# Altium footprint library Pakage_lib.pcblib: 90 footprints (part 1 of 6)
Each footprint in its own frame and in the unit in brackets; x right, y up, seen from the top. Pads: shape width x height; smd on the part's side, far side on the other; paste and mask are expansions set on the pad; w line width, h text height; cw(c..) or ccw(c..) is an arc to the next point about the centre after c.
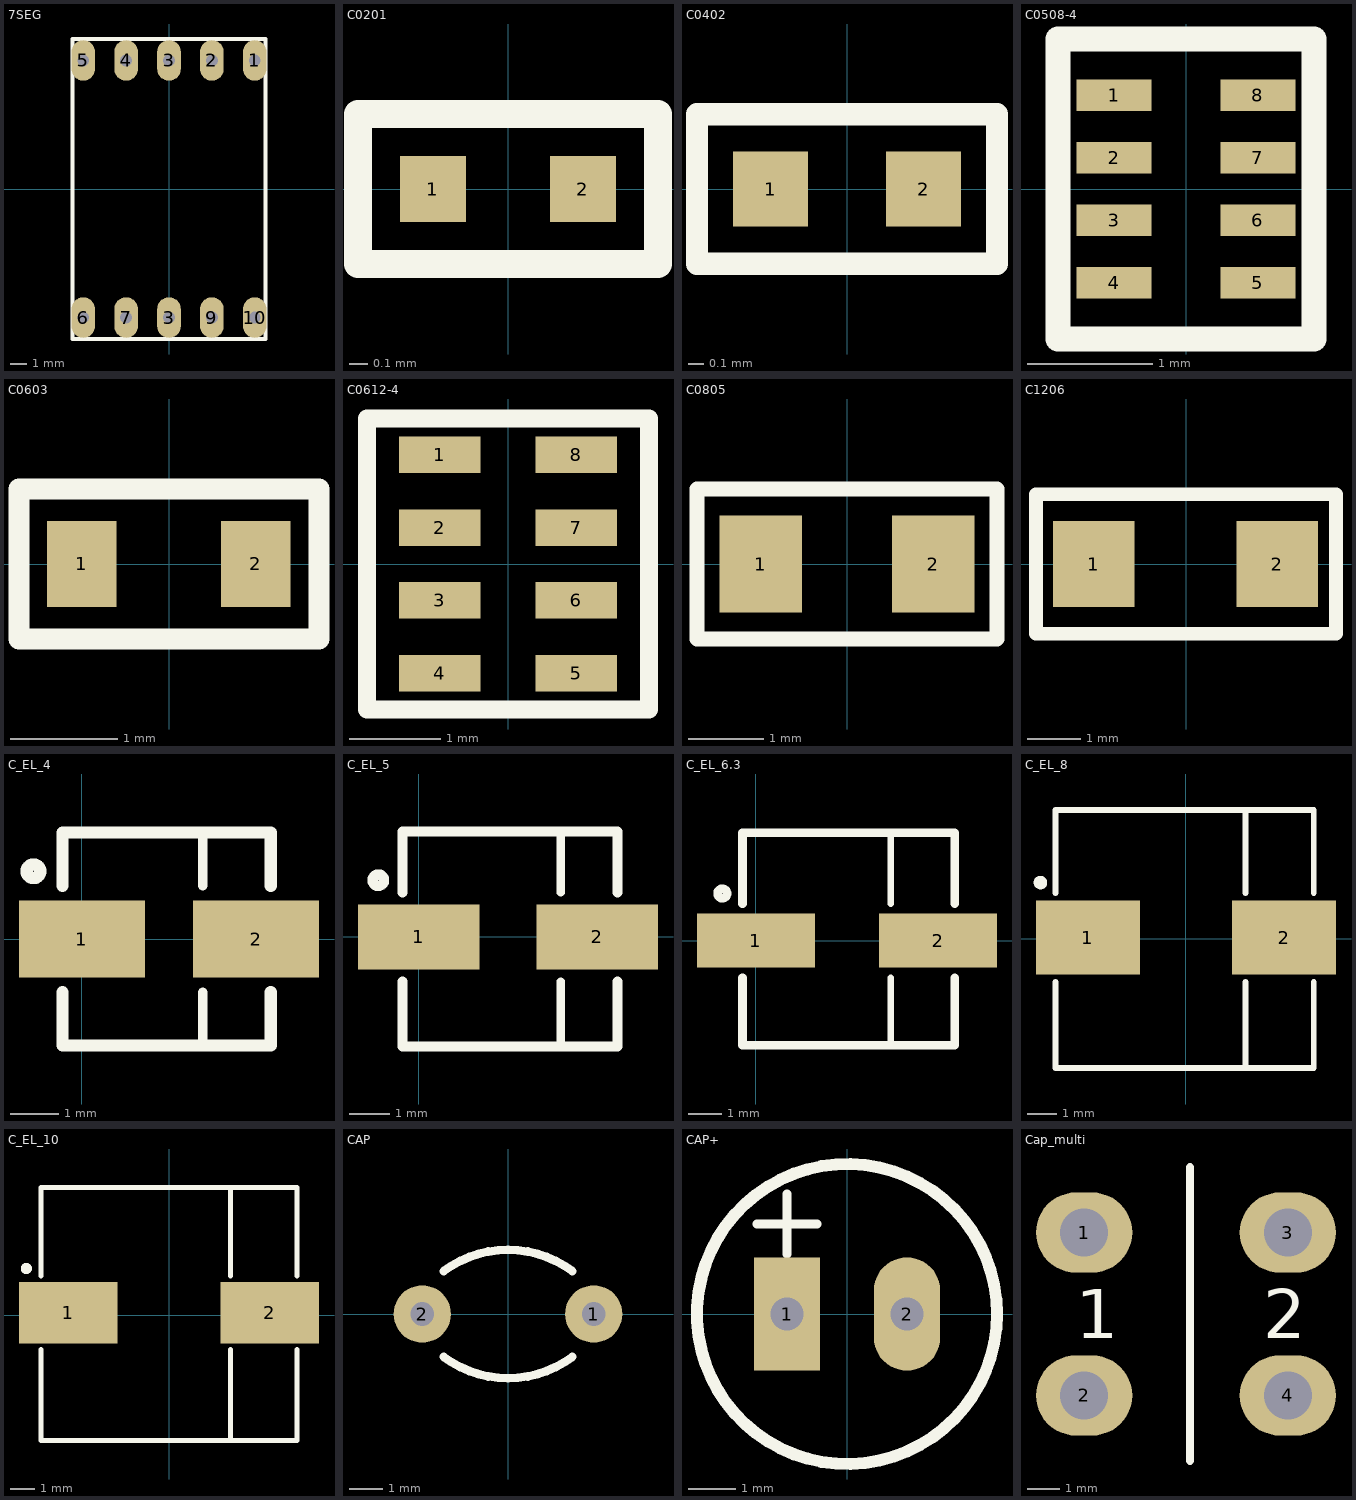
[diagram p0: the footprints below, top view; thin cyan lines are the x and y axes]

## 7SEG [mm]
pads (10):
  oval 1.4x2.4 hole 0.7: 1(5.08,7.62) 2(2.54,7.62) 3(0,-7.62) 3(0,7.62) 4(-2.54,7.62) 5(-5.08,7.62) 6(-5.08,-7.62) 7(-2.54,-7.62) 9(2.54,-7.62) 10(5.08,-7.62)
Top Overlay:
  lines w0.254: -5.715,-8.89 -5.715,8.89 5.715,8.89 5.715,-8.89 -5.715,-8.89

## C0201 [mm] "SMD Body 0.6 x 0.3 mm (LxW typ)"
height 0.35
pads (2):
  rect 0.35x0.35 smd: 1(-0.4,0) 2(0.4,0)
Top Overlay:
  lines w0.15: -0.8,-0.4 -0.8,0.4 0.8,0.4 0.8,-0.4 -0.8,-0.4
3D body "User Library-res0201-1.STEP": height 0.23, standoff 0, extent -0.3,-0.15 0.3,0.15

## C0402 [mm]
pads (2):
  rect 0.5x0.5 smd: 1(-0.51,0) 2(0.51,0)
Top Overlay:
  lines w0.15: -1,-0.5 -1,0.5 1,0.5 1,-0.5 -1,-0.5
3D body "User Library-0402C.step": height 0.36, standoff 0, extent -0.5,-0.275 0.5,0.255

## C0508-4 [mm] "Capacitor array (4 caps)"
pads (8):
  rect 0.6x0.25 smd: 1(-0.575,0.75) 2(-0.575,0.25) 3(-0.575,-0.25) 4(-0.575,-0.75) 5(0.575,-0.75) 6(0.575,-0.25) 7(0.575,0.25) 8(0.575,0.75)
Top Overlay:
  lines w0.2: -1.025,-1.2 -1.025,1.2 1.025,1.2 1.025,-1.2 -1.025,-1.2
3D body "User Library-lla215.step": height 0.52, standoff 0, extent -0.64,-1 0.64,1

## C0603 [mm]
pads (2):
  rect 0.65x0.8 smd: 1(-0.815,0) 2(0.81,0)
Top Overlay:
  lines w0.2: -1.4,-0.7 1.4,-0.7 1.4,0.7 -1.4,0.7 -1.4,-0.7
3D body "User Library-Chip Cap_MLCC_0603 (1608).step": height 0.5, standoff 0, extent -0.8,-0.4 0.8,0.4

## C0612-4 [mm] "Capacitor array (4 caps)"
pads (8):
  rect 0.9x0.4 smd: 1(-0.75,1.2) 2(-0.75,0.4) 3(-0.75,-0.4) 4(-0.75,-1.2) 5(0.75,-1.2) 6(0.75,-0.4) 7(0.75,0.4) 8(0.75,1.2)
Top Overlay:
  lines w0.2: -1.55,-1.6 -1.55,1.6 1.55,1.6 1.55,-1.6 -1.55,-1.6
3D body "User Library-Array-1206-4Way-Var1.STEP": height 0.5, standoff 0, extent -0.8,-1.6 0.8,1.6

## C0805 [mm]
pads (2):
  rect 1.1x1.3 smd: 1(-1.15,0) 2(1.15,0)
Top Overlay:
  lines w0.2: -2,-1 -2,1 2,1 2,-1 -2,-1
3D body: height 0.7, standoff 0, extent 0.5,-0.625 1,0.625
3D body: height 0.7, standoff 0, extent -1,-0.625 -0.5,0.625
3D body: height 0.7, standoff 0, extent -0.5,-0.625 0.5,0.625

## C1206 [mm]
pads (2):
  rect 1.52x1.6 smd: 1(-1.725,0) 2(1.7,0)
Top Overlay:
  lines w0.254: -2.8,-1.3 2.8,-1.3 2.8,1.3 -2.8,1.3 -2.8,-1.3
3D body "User Library-Chip Cap_MLCC_1206 (3216)_C.STEP": height 0.95, standoff 0, extent -1.6,-0.8 1.6,0.8

## C_EL_4 [mm]
pads (2):
  rect 2.6x1.6 smd: 1(0,0) 2(3.6,0)
Top Overlay:
  circle w0.254: c-1,1.4 r0.141
  lines w0.2: 2.5,-2.2 2.5,-1.1 ; 2.5,1.1 2.5,2.2
  lines w0.254: 3.9,-1.1 3.9,-2.2 -0.4,-2.2 -0.4,-1.1 ; 3.9,1.1 3.9,2.2 -0.4,2.2 -0.4,1.1 ; -0.4,-1.1 -0.4,-1.1 ; -0.4,1.1 -0.4,1.1
3D body "User Library-CAPSMD4x3_9.STEP": height 3.91, standoff 0, extent -0.55,-2.175 4.05,2.125

## C_EL_5 [mm]
pads (2):
  rect 3x1.6 smd: 1(0,0) 2(4.4,0)
Top Overlay:
  circle w0.254: c-1,1.4 r0.141
  lines w0.2: 3.5,-2.7 3.5,-1.1 ; 3.5,1.1 3.5,2.6
  lines w0.254: 4.9,-1.1 4.9,-2.7 -0.4,-2.7 -0.4,-1.1 ; 4.9,1.1 4.9,2.6 -0.4,2.6 -0.4,1.1 ; -0.4,-1.1 -0.4,-1.1 ; -0.4,1.1 -0.4,1.1
3D body "User Library-CAP SMD SVP 5_0x5_9.STEP": height 5.9, standoff 0, extent -0.8,-2.65 5.2,2.65

## C_EL_6.3 [mm]
pads (2):
  rect 3.5x1.6 smd: 1(0,0) 2(5.4,0)
Top Overlay:
  circle w0.254: c-1,1.4 r0.141
  lines w0.2: 4,-3.1 4,-1.1 ; 4,1.1 4,3.2
  lines w0.254: -0.4,-1.1 -0.4,-3.1 5.9,-3.1 5.9,-1.1 ; -0.4,1.1 -0.4,3.2 5.9,3.2 5.9,1.1
3D body "User Library-CEL63D66S8H.STEP": height 7.9, standoff 0.2, extent -0.775,-3.3 6.225,3.3

## C_EL_8 [mm]
pads (2):
  rect 3.5x2.5 smd: 1(-3.3,0.05) 2(3.3,0.05)
Top Overlay:
  circle w0.254: c-4.9,1.9 r0.1
  lines w0.2: -4.4,-1.45 -4.4,-4.35 4.3,-4.35 4.3,-1.45 ; -4.4,1.55 -4.4,4.35 4.3,4.35 4.3,1.55 ; 2,-4.35 2,-1.45 ; 2,1.55 2,4.35
3D body "User Library-CAP SMD SVP 8_0x6_9.STEP": height 6.9, standoff 0, extent -4.5,-4.15 4.5,4.15

## C_EL_10 [mm]
pads (2):
  rect 4x2.5 smd: 1(-4.1,0.1) 2(4.1,0.1)
Top Overlay:
  circle w0.254: c-5.8,1.9 r0.1
  lines w0.2: -5.2,-1.4 -5.2,-5.1 5.2,-5.1 5.2,-1.4 ; -5.2,1.6 -5.2,5.2 5.2,5.2 5.2,1.6 ; 2.5,-5.1 2.5,-1.4 ; 2.5,1.6 2.5,5.2
3D body "User Library-CAP SMD SVP 10_0x12_6.STEP": height 12.6, standoff 0, extent -5.5,-5.15 5.5,5.15

## CAP [mm]
pads (2):
  round 1.7 hole 0.7: 1(2.54,0) 2(-2.54,0)
Top Overlay:
  lines w0.254: -1.905,-1.27 ccw(c0,1.27) 1.905,-1.27 ; -1.905,1.27 cw(c0,-1.27) 1.905,1.27

## CAP+ [mm]
pads (2):
  rect 1.4x2.4 hole 0.7: 1(-1.27,0)
  oval 1.4x2.4 hole 0.7: 2(1.27,0)
Top Overlay:
  circle w0.254: c0,0 r3.175
  lines w0.2: -1.905,1.905 -0.635,1.905 ; -1.27,1.27 -1.27,2.54

## Cap_multi [mm]
pads (4):
  oval 3x2.5 hole 1.5: 1(12.7,33.02) 2(12.7,27.94) 3(19.05,33.02) 4(19.05,27.94)
Top Overlay:
  lines w0.254: 16.002,25.908 16.002,35.052
  text "2" at 18.288,29.718 h1.52
  text "1" at 12.446,29.718 h1.52